# Altium footprint library STM32_PCB1.PcbLib: 18 footprints (part 1 of 2)
Each footprint in its own frame and in the unit in brackets; x right, y up, seen from the top. Pads: shape width x height; smd on the part's side, far side on the other; paste and mask are expansions set on the pad; w line width, h text height; cw(c..) or ccw(c..) is an arc to the next point about the centre after c.
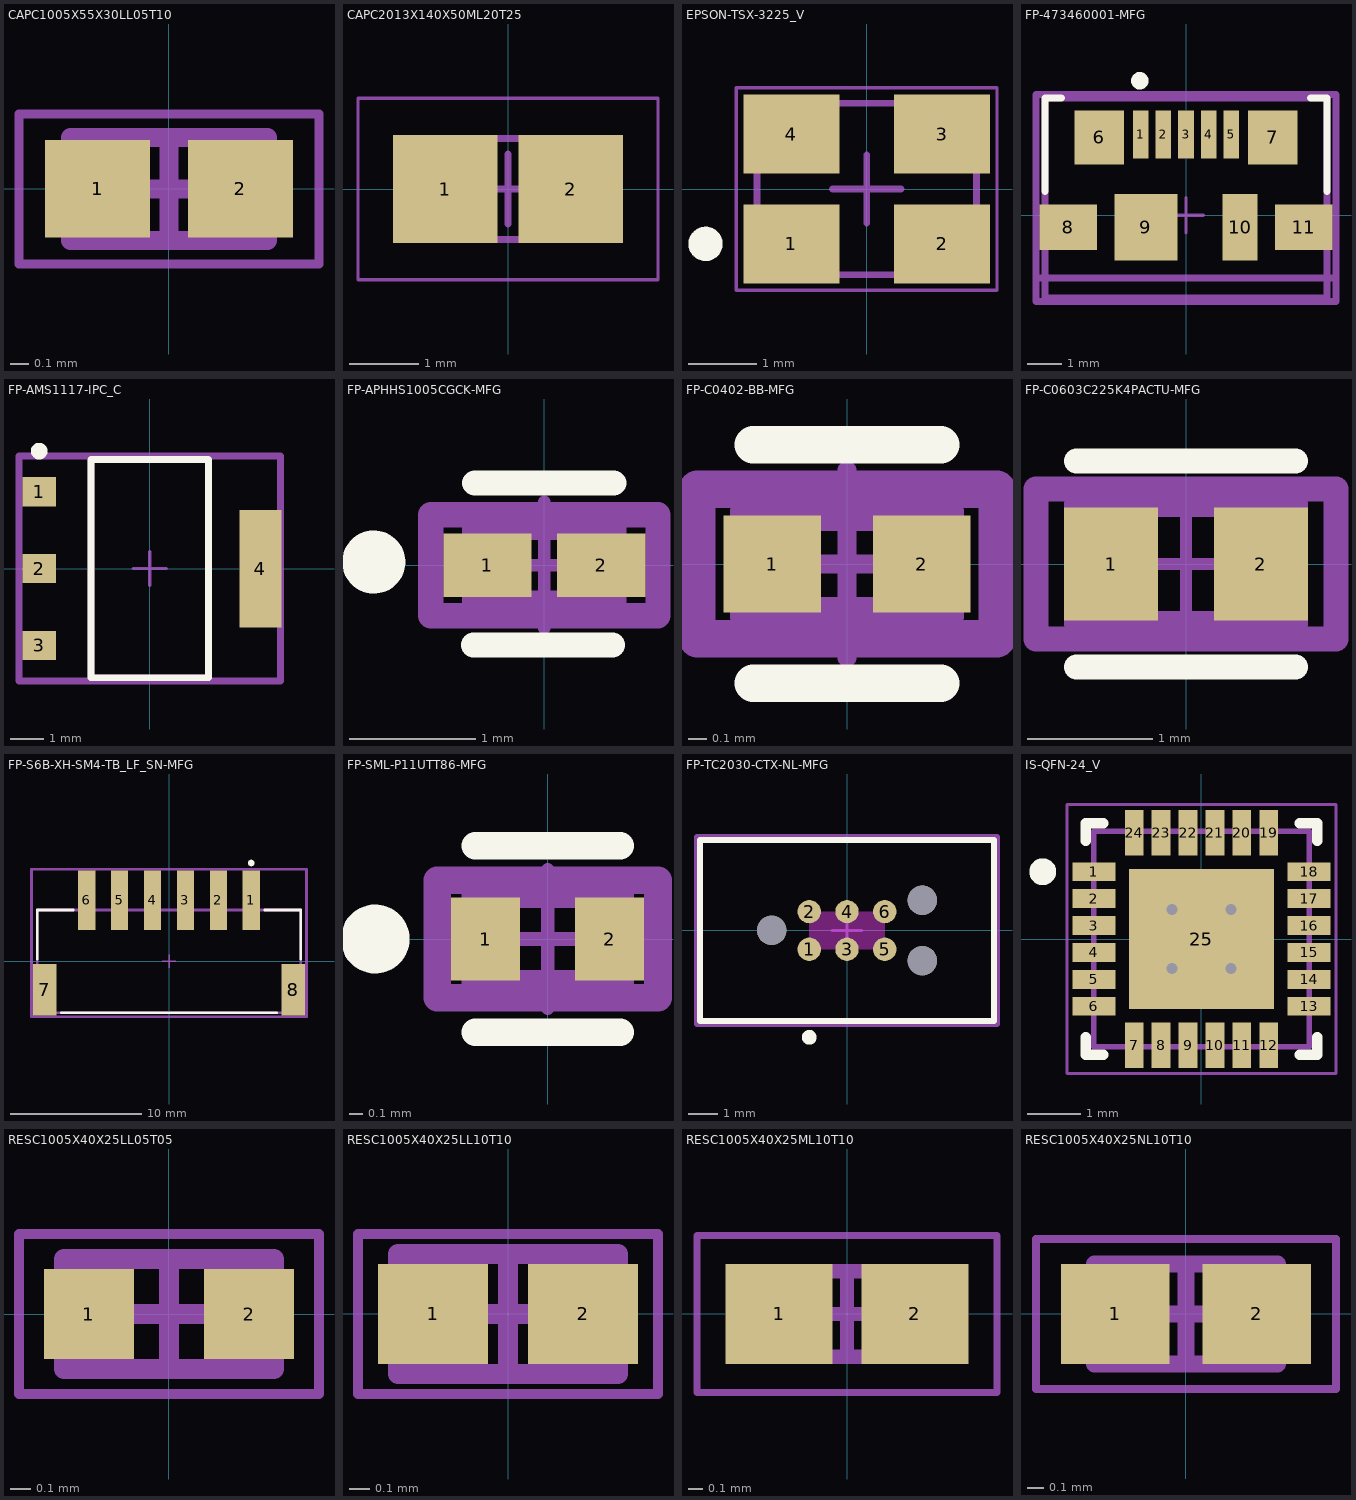
[diagram p0: the footprints below, top view; thin cyan lines are the x and y axes]

## CAPC1005X55X30LL05T10 [mm] "Chip Capacitor, 2-Leads, Body 1.00x0.50mm, IPC High Density"
height 0.55
pads (2):
  rect 0.56x0.52 smd: 1(-0.38,0) 2(0.38,0)
Top 3D Body:
  lines w0.1: -0.525,-0.275 0.525,-0.275 0.525,0.275 -0.525,0.275 -0.525,-0.275
Top Courtyard:
  lines w0.05: -0.8,-0.4 0.8,-0.4 0.8,0.4 -0.8,0.4 -0.8,-0.4
  lines w0.1: -0.275,0 0.275,0 ; 0,-0.275 0,0.275
3D body: height 0.55, standoff 0, extent 0.225,-0.275 0.525,0.275
3D body: height 0.55, standoff 0, extent -0.525,-0.275 -0.225,0.275
3D body: height 0.55, standoff 0, extent -0.225,-0.275 0.225,0.275

## CAPC2013X140X50ML20T25 [mm] "Chip Capacitor, 2-Leads, Body 2.00x1.25mm, IPC Low Density"
height 1.4
pads (2):
  rect 1.5x1.55 smd: 1(-0.9,0) 2(0.9,0)
Top 3D Body:
  lines w0.1: -1.1,-0.725 -1.1,0.725 1.1,0.725 1.1,-0.725 -1.1,-0.725
Top Courtyard:
  lines w0.05: -2.15,-1.3 -2.15,1.3 2.15,1.3 2.15,-1.3 -2.15,-1.3
  lines w0.1: -0.5,0 0.5,0 ; 0,-0.5 0,0.5
3D body: height 1.4, standoff 0, extent -0.6,-0.725 0.6,0.725
3D body: height 1.4, standoff 0, extent -1.1,-0.725 -0.6,0.725
3D body: height 1.4, standoff 0, extent 0.6,-0.725 1.1,0.725

## EPSON-TSX-3225_V [mm] "SMD, 4-Leads, Body 3.2x2.5mm"
height 0.6
pads (4):
  rect 1.4x1.15 smd: 1(-1.1,-0.8) 2(1.1,-0.8) 3(1.1,0.8) 4(-1.1,0.8)
Top Overlay:
  circle w0.25: c-2.35,-0.8 r0.125
Top 3D Body:
  lines w0.1: -1.6,-1.25 1.6,-1.25 1.6,1.25 -1.6,1.25 -1.6,-1.25
Top Courtyard:
  lines w0.05: -1.9,-1.475 -1.9,1.475 1.9,1.475 1.9,-1.475 -1.9,-1.475
  lines w0.1: -0.5,0 0.5,0 ; 0,-0.5 0,0.5
3D body: height 0.6, standoff 0, extent -1.6,-1.25 1.6,1.25

## FP-473460001-MFG [mm]
pads (11):
  rect 0.45x1.38 smd paste+0 mask+0: 1(-1.3,2.31) 2(-0.65,2.31) 3(0,2.31) 4(0.65,2.31) 5(1.3,2.31)
  rect 1.425x1.55 smd paste+0 mask+0: 6(-2.488,2.225) 7(2.488,2.225)
  rect 1.65x1.3 smd paste+0 mask+0: 8(-3.375,-0.35) 11(3.375,-0.35)
  rect 1.8x1.9 smd paste+0 mask+0: 9(-1.15,-0.35)
  rect 1x1.9 smd paste+0 mask+0: 10(1.55,-0.35)
Top Overlay:
  circle w0.25: c-1.325,3.85 r0.125
  lines w0.2: -4.045,0.675 -4.045,3.35 -3.575,3.35 ; 3.575,3.35 4.045,3.35 4.045,0.675
Top Assembly:
  lines w0.2: -4.3,-2.48 4.3,-2.48 4.3,3.45 -4.3,3.45 -4.3,-2.48
  text ".Designator" at 0,0.673 h1
Top 3D Body:
  lines w0.2: -4.3,-1.8 4.3,-1.8 ; -4.045,-2.38 4.045,-2.38 4.045,3.35 -4.045,3.35 -4.045,-2.38
Top Courtyard:
  lines w0.2: -4.3,-2.48 4.3,-2.48 4.3,3.45 -4.3,3.45 -4.3,-2.48
Top Component Center:
  lines w0.1: -0.5,0 0.5,0 ; 0,-0.5 0,0.5
3D body "Conn_Molex_473460001_eec.STEP": height 0.25, standoff 0, extent -4.3,-2.48 4.3,3.45

## FP-AMS1117-IPC_C [mm]
pads (4):
  rect 1.004x0.872 smd paste+0 mask+0: 1(-3.295,2.29) 2(-3.295,0) 3(-3.295,-2.29)
  rect 1.25x3.5 smd paste+0 mask+0: 4(3.295,0)
Top Overlay:
  circle w0.25: c-3.295,3.5 r0.125
  lines w0.2: -1.753,-3.253 1.753,-3.253 1.753,3.253 -1.753,3.253 -1.753,-3.253
Top Assembly:
  lines w0.2: -3.897,-3.353 3.897,-3.353 3.897,3.353 -3.897,3.353 -3.897,-3.353
  text ".Designator" at 0,0.188 h1
Top 3D Body:
  lines w0.2: -1.753,-3.253 1.753,-3.253 1.753,3.253 -1.753,3.253 -1.753,-3.253
Top Courtyard:
  lines w0.2: -3.897,-3.353 3.897,-3.353 3.897,3.353 -3.897,3.353 -3.897,-3.353
Top Component Center:
  lines w0.1: -0.5,0 0.5,0 ; 0,-0.5 0,0.5
3D body "IC_Advanced_Monolithic_Systems_AMS1117-3_3_eec.STEP": height 0.25, standoff 0, extent -3.897,-3.353 3.897,3.353

## FP-APHHS1005CGCK-MFG [mm]
pads (2):
  rect 0.7x0.5 smd paste+0 mask+0: 1(-0.45,0) 2(0.45,0)
Top Overlay:
  circle w0.25: c-1.35,0.025 r0.125
  lines w0.2: -0.561,-0.631 0.539,-0.631 ; -0.55,0.65 0.55,0.65
Top Assembly:
  lines w0.2: -0.9,-0.4 0.9,-0.4 0.9,0.4 -0.9,0.4 -0.9,-0.4
  text ".Designator" at 0,-0.001 h1
Top 3D Body:
  lines w0.2: -0.55,-0.3 0.55,-0.3 0.55,0.3 -0.55,0.3 -0.55,-0.3
Top Courtyard:
  lines w0.2: -0.9,-0.4 0.9,-0.4 0.9,0.4 -0.9,0.4 -0.9,-0.4
Top Component Center:
  lines w0.1: -0.5,0 0.5,0 ; 0,-0.5 0,0.5
3D body "Diode_Kingbright_APHHS1005CGCK_eec.STEP": height 0.25, standoff 0, extent -0.9,-0.4 0.9,0.4

## FP-C0402-BB-MFG [mm]
pads (2):
  rect 0.52x0.52 smd paste+0 mask+0: 1(-0.4,0) 2(0.4,0)
Top Overlay:
  lines w0.2: -0.5,-0.635 0.5,-0.635 ; -0.5,0.635 0.5,0.635
Top Assembly:
  lines w0.2: -0.8,-0.4 0.8,-0.4 0.8,0.4 -0.8,0.4 -0.8,-0.4
  text ".Designator" at 0,0.188 h1
Top 3D Body:
  lines w0.2: -0.525,-0.275 0.525,-0.275 0.525,0.275 -0.525,0.275 -0.525,-0.275
Top Courtyard:
  lines w0.2: -0.8,-0.4 0.8,-0.4 0.8,0.4 -0.8,0.4 -0.8,-0.4
Top Component Center:
  lines w0.1: -0.5,0 0.5,0 ; 0,-0.5 0,0.5
3D body "Cap_Kemet_C0402C562J5RACTU_eec.STEP": height 0.25, standoff 0, extent -0.8,-0.4 0.8,0.4

## FP-C0603C225K4PACTU-MFG [mm] "Chip Capacitor, 2-Leads, Body 1.60x0.80mm, IPC Low Density"
height 0.9
pads (2):
  rect 0.75x0.9 smd paste+0 mask+0: 1(-0.6,0) 2(0.6,0)
Top Overlay:
  lines w0.2: -0.875,-0.825 0.875,-0.825 ; -0.875,0.825 0.875,0.825
Top Assembly:
  lines w0.2: -1.2,-0.6 -1.2,0.6 1.2,0.6 1.2,-0.6 -1.2,-0.6
  text ".Designator" at 0,-0.342 h1
Top 3D Body:
  lines w0.2: -0.875,-0.475 -0.875,0.475 0.875,0.475 0.875,-0.475 -0.875,-0.475
Top Courtyard:
  lines w0.2: -1.2,-0.6 -1.2,0.6 1.2,0.6 1.2,-0.6 -1.2,-0.6
Top Component Center:
  lines w0.1: -0.5,0 0.5,0 ; 0,-0.5 0,0.5
3D body "Cap_Kemet_C0603C225K4PACTU_eec.STEP": height 0.25, standoff 0, extent -1.2,-0.6 1.2,0.6

## FP-S6B-XH-SM4-TB_LF_SN-MFG [mm]
pads (8):
  rect 1.3x4.5 smd paste+0 mask+0: 1(6.25,4.65) 2(3.75,4.65) 3(1.25,4.65) 4(-1.25,4.65) 5(-3.75,4.65) 6(-6.25,4.65)
  rect 1.8x3.9 smd paste+0 mask+0: 7(-9.45,-2.15) 8(9.45,-2.15)
Top Overlay:
  circle w0.25: c6.25,7.475 r0.125
  lines w0.2: -10,0.175 -10,3.9 -7.275,3.9 ; -8.175,-3.9 8.175,-3.9 ; 7.275,3.9 10,3.9 10,0.175
Top Assembly:
  lines w0.2: -10.45,-4.2 10.45,-4.2 10.45,7 -10.45,7 -10.45,-4.2
  text ".Designator" at 0,1.588 h1
Top 3D Body:
  lines w0.2: -10,-3.9 10,-3.9 10,3.9 -10,3.9 -10,-3.9
Top Courtyard:
  lines w0.2: -10.45,-4.2 10.45,-4.2 10.45,7 -10.45,7 -10.45,-4.2
Top Component Center:
  lines w0.1: -0.5,0 0.5,0 ; 0,-0.5 0,0.5
3D body "Conn_JST_S6B-XH-SM4-TB_LF_SN_eec.STEP": height 6, standoff 0, extent -9.975,-6.1 9.975,3.9

## FP-SML-P11UTT86-MFG [mm]
pads (2):
  rect 0.5x0.6 smd paste+0 mask+0: 1(-0.45,0) 2(0.45,0)
Top Overlay:
  circle w0.25: c-1.25,0 r0.125
  lines w0.2: -0.525,-0.675 0.525,-0.675 ; -0.525,0.675 0.525,0.675
Top Assembly:
  lines w0.2: -0.8,-0.425 0.8,-0.425 0.8,0.425 -0.8,0.425 -0.8,-0.425
  text ".Designator" at 0,-0.001 h1
Top 3D Body:
  lines w0.2: -0.525,-0.325 0.525,-0.325 0.525,0.325 -0.525,0.325 -0.525,-0.325
Top Courtyard:
  lines w0.2: -0.8,-0.425 0.8,-0.425 0.8,0.425 -0.8,0.425 -0.8,-0.425
Top Component Center:
  lines w0.1: -0.5,0 0.5,0 ; 0,-0.5 0,0.5
3D body "Diode_ROHM_SML-P11UTT86_eec.STEP": height 0.25, standoff 0, extent -0.8,-0.425 0.8,0.425

## FP-TC2030-CTX-NL-MFG [mil]
pads (9):
  round 30.98 smd paste-39370.1 mask+0: 1(-50,-25) 2(-50,25) 3(0,-25) 4(0,25) 5(50,-25) 6(50,25)
  round 39.02 hole 39.02 unplated paste-99999 mask+0: ""(-100,0) ""(100,-40) ""(100,40)
Top Overlay:
  circle w9.84: c-50,-141.73 r4.92
  lines w7.87: -195,-120 195,-120 195,120 -195,120 -195,-120
Keep-Out Layer:
  region: -34.51,-25 -15.49,-25 -15.19,-21.98 -12.88,-16.39 -8.61,-12.12 -3.02,-9.81 3.02,-9.81 8.61,-12.12 12.88,-16.39 15.19,-21.98 15.49,-25 34.51,-25 34.81,-21.98 37.12,-16.39 41.39,-12.12 46.98,-9.81 50,-9.51 50,9.51 46.98,9.81 41.39,12.12 37.12,16.39 34.81,21.98 34.51,25 15.49,25 15.19,21.98 12.88,16.39 8.61,12.12 3.02,9.81 -3.02,9.81 -8.61,12.12 -12.88,16.39 -15.19,21.98 -15.49,25 -34.51,25 -34.81,21.98 -37.12,16.39 -41.39,12.12 -46.98,9.81 -50,9.51 -50,-9.51 -46.98,-9.81 -41.39,-12.12 -37.12,-16.39 -34.81,-21.98
Top Assembly:
  lines w7.87: -198.94,-123.94 198.94,-123.94 198.94,123.94 -198.94,123.94 -198.94,-123.94
  text ".Designator" at 0,7.39 h39.37
Top 3D Body:
  lines w7.87: -195,-120 195,-120 195,120 -195,120 -195,-120
Top Courtyard:
  lines w7.87: -198.94,-123.94 198.94,-123.94 198.94,123.94 -198.94,123.94 -198.94,-123.94
Top Component Center:
  lines w3.94: -19.68,0 19.68,0 ; 0,-19.68 0,19.68
3D body "Conn_Tag_Connect_TC2030-CTX-NL_eec.STEP": height 10, standoff 0, extent -198.94,-123.94 198.94,123.94

## IS-QFN-24_V [mm] "QFN, 24-Leads, Body 4x4mm, Pitch 0.5mm, Thermal Pad 2.7x2.6mm"
height 0.95
pads (25):
  rect 0.8x0.35 smd: 1(-2,1.25) 2(-2,0.75) 3(-2,0.25) 4(-2,-0.25) 5(-2,-0.75) 6(-2,-1.25) 13(2,-1.25) 14(2,-0.75) 15(2,-0.25) 16(2,0.25) 17(2,0.75) 18(2,1.25)
  rect 0.35x0.85 smd mask+0.102: 7(-1.25,-1.975) 8(-0.75,-1.975) 9(-0.25,-1.975) 10(0.25,-1.975) 11(0.75,-1.975) 12(1.25,-1.975) 19(1.25,1.975) 20(0.75,1.975) 21(0.25,1.975) 22(-0.25,1.975) 23(-0.75,1.975) 24(-1.25,1.975)
  rect 2.7x2.6 smd: 25(0,0)
via -0.55,-0.55 diameter 0.5 hole 0.2
via 0.55,-0.55 diameter 0.5 hole 0.2
via 0.55,0.55 diameter 0.5 hole 0.2
via -0.55,0.55 diameter 0.5 hole 0.2
Top Overlay:
  circle w0.25: c-2.95,1.25 r0.125
  lines w0.2: -2.15,-1.825 -2.15,-2.15 -1.825,-2.15 ; -2.15,1.825 -2.15,2.15 -1.825,2.15 ; 1.825,-2.15 2.15,-2.15 2.15,-1.825 ; 1.825,2.15 2.15,2.15 2.15,1.825
Top 3D Body:
  lines w0.1: -2,-2 -2,2 2,2 2,-2 -2,-2
Top Courtyard:
  lines w0.05: -2.5,-2.5 2.5,-2.5 2.5,2.5 -2.5,2.5 -2.5,-2.5
  lines w0.1: -0.5,0 0.5,0 ; 0,-0.5 0,0.5
3D body: height 0.95, standoff 0, extent -1.999,-1.999 1.999,1.999

## RESC1005X40X25LL05T05 [mm] "Chip Resistor, 2-Leads, Body 1.00x0.50mm, IPC High Density"
height 0.4
pads (2):
  rect 0.45x0.45 smd: 1(-0.4,0) 2(0.4,0)
Top 3D Body:
  lines w0.1: -0.525,-0.275 0.525,-0.275 0.525,0.275 -0.525,0.275 -0.525,-0.275
Top Courtyard:
  lines w0.05: -0.75,-0.4 0.75,-0.4 0.75,0.4 -0.75,0.4 -0.75,-0.4
  lines w0.1: -0.275,0 0.275,0 ; 0,-0.275 0,0.275
3D body: height 0.4, standoff 0, extent 0.275,-0.275 0.525,0.275
3D body: height 0.4, standoff 0, extent -0.525,-0.275 -0.275,0.275
3D body: height 0.4, standoff 0, extent -0.275,-0.275 0.275,0.275

## RESC1005X40X25LL10T10 [mm] "Chip Resistor, 2-Leads, Body 1.00x0.50mm, IPC High Density"
height 0.4
pads (2):
  rect 0.55x0.5 smd: 1(-0.375,0) 2(0.375,0)
Top 3D Body:
  lines w0.1: -0.55,-0.3 0.55,-0.3 0.55,0.3 -0.55,0.3 -0.55,-0.3
Top Courtyard:
  lines w0.05: -0.75,-0.4 0.75,-0.4 0.75,0.4 -0.75,0.4 -0.75,-0.4
  lines w0.1: -0.3,0 0.3,0 ; 0,-0.3 0,0.3
3D body: height 0.4, standoff 0, extent 0.3,-0.3 0.55,0.3
3D body: height 0.4, standoff 0, extent -0.55,-0.3 -0.3,0.3
3D body: height 0.4, standoff 0, extent -0.3,-0.3 0.3,0.3

## RESC1005X40X25ML10T10 [mm] "Chip Resistor, 2-Leads, Body 1.00x0.50mm, IPC Low Density"
height 0.4
pads (2):
  rect 0.75x0.7 smd: 1(-0.475,0) 2(0.475,0)
Top 3D Body:
  lines w0.1: -0.55,-0.3 0.55,-0.3 0.55,0.3 -0.55,0.3 -0.55,-0.3
Top Courtyard:
  lines w0.05: -1.05,-0.55 1.05,-0.55 1.05,0.55 -1.05,0.55 -1.05,-0.55
  lines w0.1: -0.3,0 0.3,0 ; 0,-0.3 0,0.3
3D body: height 0.4, standoff 0, extent 0.3,-0.3 0.55,0.3
3D body: height 0.4, standoff 0, extent -0.55,-0.3 -0.3,0.3
3D body: height 0.4, standoff 0, extent -0.3,-0.3 0.3,0.3

## RESC1005X40X25NL10T10 [mm] "Chip Resistor, 2-Leads, Body 1.00x0.50mm, IPC Medium Density"
height 0.4
pads (2):
  rect 0.65x0.6 smd: 1(-0.425,0) 2(0.425,0)
Top 3D Body:
  lines w0.1: -0.55,-0.3 0.55,-0.3 0.55,0.3 -0.55,0.3 -0.55,-0.3
Top Courtyard:
  lines w0.05: -0.9,-0.45 0.9,-0.45 0.9,0.45 -0.9,0.45 -0.9,-0.45
  lines w0.1: -0.3,0 0.3,0 ; 0,-0.3 0,0.3
3D body: height 0.4, standoff 0, extent 0.3,-0.3 0.55,0.3
3D body: height 0.4, standoff 0, extent -0.55,-0.3 -0.3,0.3
3D body: height 0.4, standoff 0, extent -0.3,-0.3 0.3,0.3